# Altium footprint library Chip2010.PcbLib: 1 footprints
Each footprint in its own frame and in the unit in brackets; x right, y up, seen from the top. Pads: shape width x height; smd on the part's side, far side on the other; paste and mask are expansions set on the pad; w line width, h text height; cw(c..) or ccw(c..) is an arc to the next point about the centre after c.
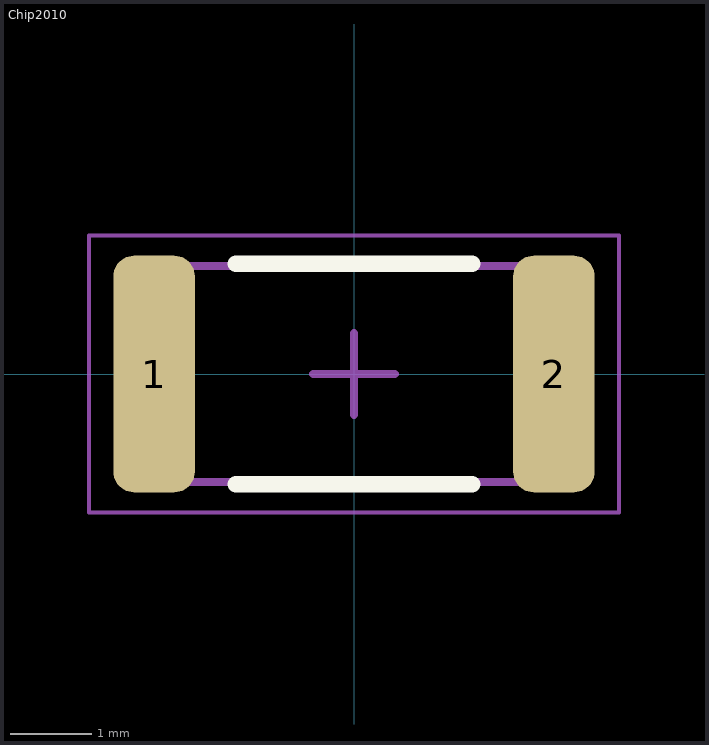
[diagram p0: the footprint, top view; thin cyan lines are the x and y axes]

## Chip2010 [mm] "Chip Resistor, 2-Leads, Body 5.00x2.50mm, IPC Medium Density"
height 0.7
pads (2):
  rrect50% 1x2.9 smd: 1(-2.45,0) 2(2.45,0)
Top Overlay:
  lines w0.2: -1.45,-1.35 1.45,-1.35 ; -1.45,1.35 1.45,1.35
Mechanical 13:
  lines w0.1: -2.575,-1.325 -2.575,1.325 2.575,1.325 2.575,-1.325 -2.575,-1.325
Mechanical 15:
  lines w0.05: -3.25,-1.7 -3.25,1.7 3.25,1.7 3.25,-1.7 -3.25,-1.7
  lines w0.1: -0.5,0 0.5,0 ; 0,-0.5 0,0.5
Mechanical 17:
  lines w0.05: -3.25,-1.7 3.25,-1.7 3.25,1.7 -3.25,1.7 -3.25,-1.7
  text ".Designator" at -2.508,-0.623 h1
Mechanical 19:
  lines w0.05: -3.25,-1.7 3.25,-1.7 3.25,1.7 -3.25,1.7 -3.25,-1.7
  text ".Comment" at -2.508,-0.623 h1
3D body: height 0.7, standoff 0, extent -2.075,-1.325 2.075,1.325
3D body: height 0.7, standoff 0, extent -2.575,-1.325 -2.075,1.325
3D body: height 0.7, standoff 0, extent 2.075,-1.325 2.575,1.325